# Altium schematic symbol library RF.SchLib: 1 symbol
Pins are listed as number, name and electrical type; pins without a type are passive.

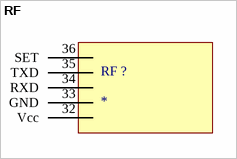
[diagram p0: symbol RF]

## RF
designator RF ?
footprint RF
pins: 32 Vcc, 33 GND, 34 RXD, 35 TXD, 36 SET